# Altium schematic symbol library Schlib1.SchLib: 19 symbols
Pins are listed as number, name and electrical type; pins without a type are passive.

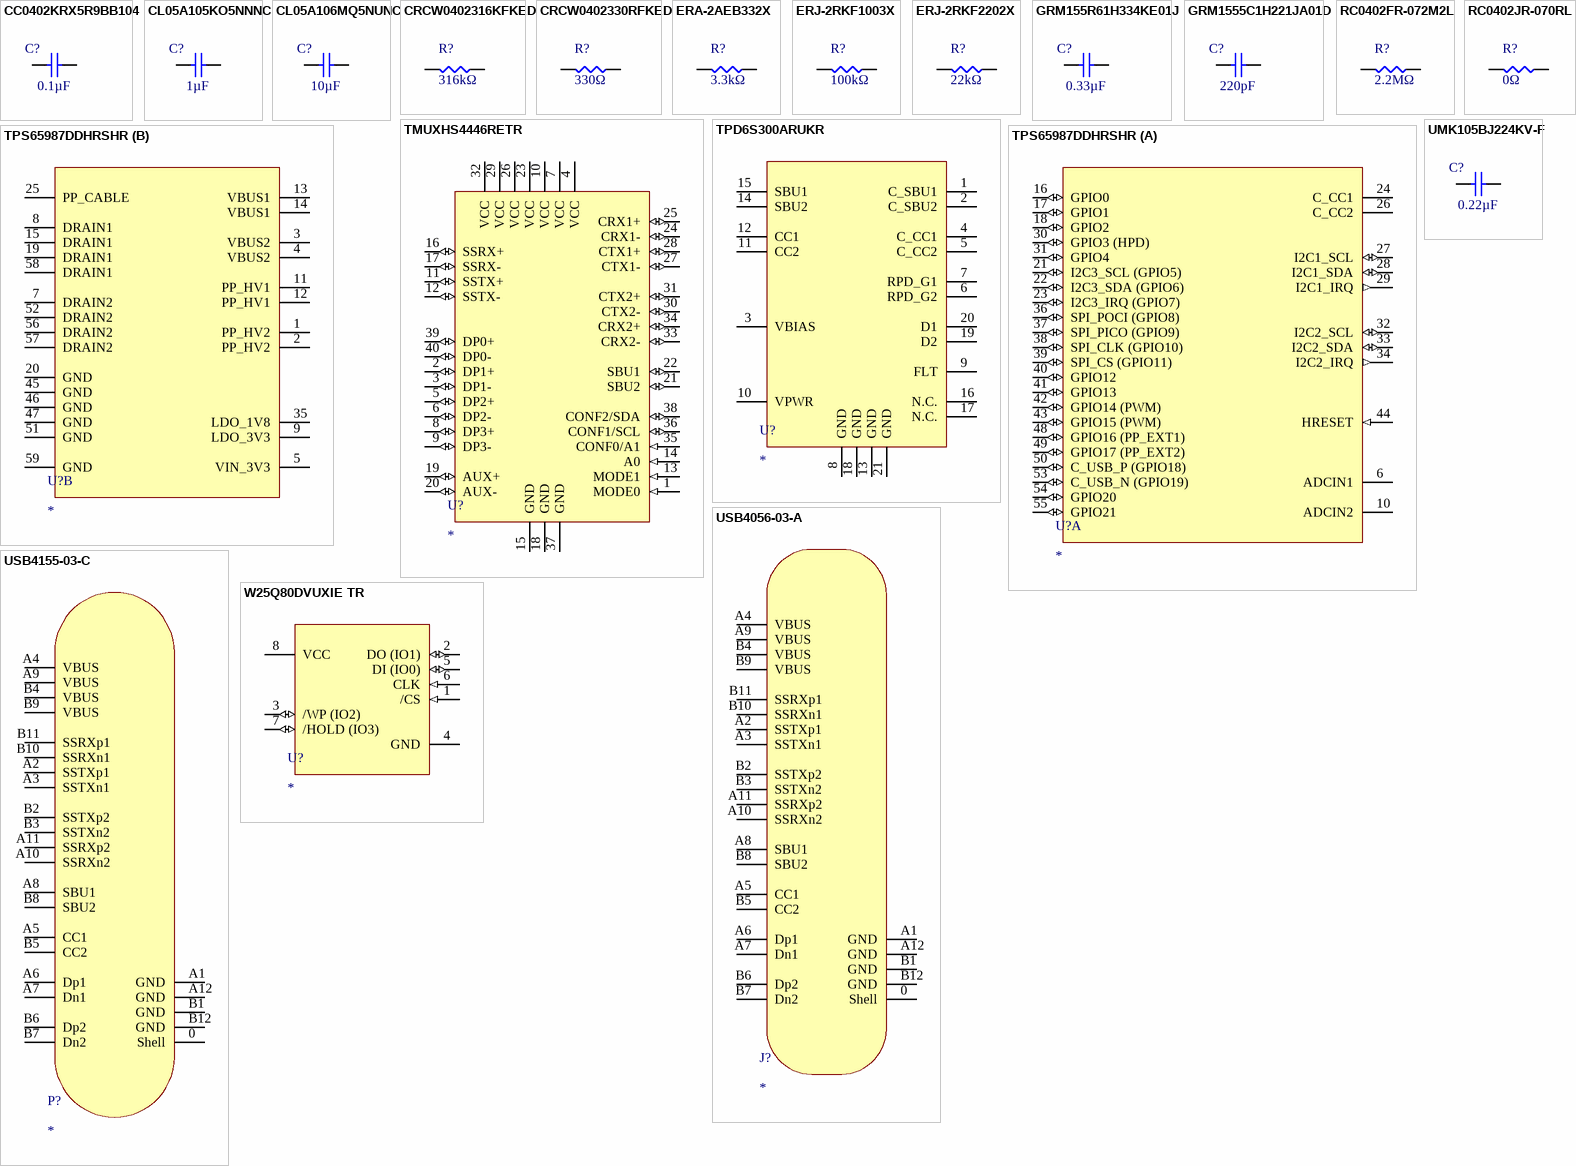
[diagram p0: symbols CC0402KRX5R9BB104 to W25Q80DVUXIE TR]

## CC0402KRX5R9BB104
designator C?  value 0.1µF
0.1 µF ±10% 50V Ceramic Capacitor X5R 0402 (1005 Metric); Temperature Coefficient: X5R; Package: 0402 (1005 Metric); Voltage: 50V
footprint CAP0402 (Chip Capacitor, Body 1x0.5mm, Height 0.35mm, IPC Medium Density)
pins: 1, 2

## CL05A105KO5NNNC
designator C?  value 1µF
1 µF ±10% 16V Ceramic Capacitor X5R 0402 (1005 Metric); Temperature Coefficient: X5R; Package: 0402 (1005 Metric); Voltage: 16V
footprint CAP0402 (Chip Capacitor, Body 1x0.5mm, Height 0.35mm, IPC Medium Density)
pins: 1, 2

## CL05A106MQ5NUNC
designator C?  value 10µF
10 µF ±20% 6.3V Ceramic Capacitor X5R 0402 (1005 Metric); Temperature Coefficient: C0G, NP0; Package: 0402 (1005 Metric); Voltage: 6.3V
footprint CAP0402 (Chip Capacitor, Body 1x0.5mm, Height 0.35mm, IPC Medium Density)
pins: 1, 2

## CRCW0402316KFKED
designator R?  value 316kΩ
316 kOhms ±1% 0.1W, 1/10W Chip Resistor 0402 (1005 Metric) Automotive AEC-Q200 Thick Film; Manufacturer 1: Vishay Dale; Manufacturer Part Number 1: CRCW0402316KFKED; Supplier Part Number 1: 541-316KLCT-ND; Supplier 1: Digi-Key; Power Rating: 1/10W
footprint RES0402 (Chip Resistor, Body 1x0.5mm, IPC Medium Density)
pins: 1, 2

## CRCW0402330RFKED
designator R?  value 330Ω
330 Ohms ±1% 0.1W, 1/10W Chip Resistor 0402 (1005 Metric) Automotive AEC-Q200 Thick Film; Manufacturer 1: Vishay Dale; Manufacturer Part Number 1: CRCW0402330RFKED; Supplier Part Number 1: 541-330LCT-ND; Supplier 1: Digi-Key; Power Rating: 1/10W
footprint RES0402 (Chip Resistor, Body 1x0.5mm, IPC Medium Density)
pins: 1, 2

## ERA-2AEB332X
designator R?  value 3.3kΩ
3.3 kOhms ±0.1% 0.063W, 1/16W Chip Resistor 0402 (1005 Metric) Automotive AEC-Q200 Thin Film; Manufacturer 1: Panasonic Electronic Components; Manufacturer Part Number 1: ERA-2AEB332X; Supplier Part Number 1: P3.3KDCCT-ND; Supplier 1: Digi-Key; Power Rating: 1/16W
footprint RES0402 (Chip Resistor, Body 1x0.5mm, IPC Medium Density)
pins: 1, 2

## ERJ-2RKF1003X
designator R?  value 100kΩ
100 kOhms ±1% 0.1W, 1/10W Chip Resistor 0402 (1005 Metric) Automotive AEC-Q200 Thick Film; Manufacturer 1: Panasonic Electronic Components; Manufacturer Part Number 1: ERJ-2RKF1003X; Supplier Part Number 1: P100KLCT-ND; Supplier 1: Digi-Key; Power Rating: 1/10W
footprint RES0402 (Chip Resistor, Body 1x0.5mm, IPC Medium Density)
pins: 1, 2

## ERJ-2RKF2202X
designator R?  value 22kΩ
22 kOhms ±1% 0.1W, 1/10W Chip Resistor 0402 (1005 Metric) Automotive AEC-Q200 Thick Film; Manufacturer 1: Panasonic Electronic Components; Manufacturer Part Number 1: ERJ-2RKF2202X; Supplier Part Number 1: P22.0KLCT-ND; Supplier 1: Digi-Key; Power Rating: 1/10W
footprint RES0402 (Chip Resistor, Body 1x0.5mm, IPC Medium Density)
pins: 1, 2

## GRM155R61H334KE01J
designator C?  value 0.33µF
0.33 µF ±10% 50V Ceramic Capacitor X5R 0402 (1005 Metric); Temperature Coefficient: X5R; Package: 0402 (1005 Metric); Voltage: 50V
footprint CAP0402 (Chip Capacitor, Body 1x0.5mm, Height 0.35mm, IPC Medium Density)
pins: 1, 2

## GRM1555C1H221JA01D
designator C?  value 220pF
220 pF ±5% 50V Ceramic Capacitor C0G, NP0 0402 (1005 Metric); Temperature Coefficient: C0G, NP0; Package: 0402 (1005 Metric); Voltage: 50V
footprint CAP0402 (Chip Capacitor, Body 1x0.5mm, Height 0.35mm, IPC Medium Density)
pins: 1, 2

## RC0402FR-072M2L
designator R?  value 2.2MΩ
2.2 MOhms ±1% 0.063W, 1/16W Chip Resistor 0402 (1005 Metric) Moisture Resistant Thick Film; Manufacturer 1: YAGEO; Manufacturer Part Number 1: RC0402FR-072M2L; Supplier Part Number 1: 13-RC0402FR-072M2LCT-ND; Supplier 1: Digi-Key; Power Rating: 1/16W
footprint RES0402 (Chip Resistor, Body 1x0.5mm, IPC Medium Density)
pins: 1, 2

## RC0402JR-070RL
designator R?  value 0Ω
0 Ohms Jumper Chip Resistor 0402 (1005 Metric) Moisture Resistant Thick Film; Manufacturer 1: YAGEO; Manufacturer Part Number 1: RC0402JR-070RL; Power Rating: 1/16W; Supplier Part Number 1: 311-0.0JRCT-ND; Supplier 1: Digi-Key
footprint RES0402 (Chip Resistor, Body 1x0.5mm, IPC Medium Density)
pins: 1, 2

## TMUXHS4446RETR
designator U?
4 Circuit IC Switch 4:4 7Ohm (Typ) 40-WQFN (6x3); Manufacturer: Texas Instruments; Manufacturer Product Number: TMUXHS4446RETR; Standards: USB 3.2 Gen 2, DP 2.1; Supplier: DigiKey; Supplier Part Number: 296-TMUXHS4446RETRCT-ND; Datasheet: https://www.ti.com/lit/ds/symlink/tmuxhs4446.pdf?ts=1710887339890&ref_url=https%253A%252F%252Fwww.ti.com%252Fproduct%252FTMUXHS4446%253Fjktype%253Dhomepageproduct; Operating Temperature: -40°C ~ 85°C
pins: 1 MODE0 (in), 2 DP1+ (io), 3 DP1- (io), 4 VCC, 5 DP2+ (io), 6 DP2- (io), 7 VCC, 8 DP3+ (io), 9 DP3- (io), 10 VCC, 11 SSTX+ (io), 12 SSTX- (io), 13 MODE1 (in), 14 A0 (in), 15 GND, 16 SSRX+ (io), 17 SSRX- (io), 18 GND, 19 AUX+ (io), 20 AUX- (io), 21 SBU2 (io), 22 SBU1 (io), 23 VCC, 24 CRX1- (io), 25 CRX1+ (io), 26 VCC, 27 CTX1- (io), 28 CTX1+ (io), 29 VCC, 30 CTX2- (io), 31 CTX2+ (io), 32 VCC, 33 CRX2- (io), 34 CRX2+ (io), 35 CONF0/A1 (in), 36 CONF1/SCL (io), 37 GND, 38 CONF2/SDA (io), 39 DP0+ (io), 40 DP0- (io)

## TPD6S300ARUKR
designator U?
Overvoltage/Surge Protection IC 8V Internal Switch 20-WQFN (3x3); Manufacturer: Texas Instruments; Manufacturer Product Number: TPD6S300ARUKR; Supplier: DigiKey; Supplier Part Number: 296-51856-1-ND; Datasheet: https://www.ti.com/lit/ds/symlink/tpd6s300a.pdf?ts=1769365287609; Operating Temperature: -40°C ~ 85°C
pins: 1 C_SBU1, 2 C_SBU2, 3 VBIAS, 4 C_CC1, 5 C_CC2, 6 RPD_G2, 7 RPD_G1, 8 GND, 9 FLT, 10 VPWR, 11 CC2, 12 CC1, 13 GND, 14 SBU2, 15 SBU1, 16 N.C., 17 N.C., 18 GND, 19 D2, 20 D1, 21 GND

## TPS65987DDHRSHR
designator U?
USB, Type-C Controller PMIC 56-VQFN (7x7); Manufacturer: Texas Instruments; Manufacturer Product Number: TPS65987DDHRSHR; Standards: USB4 PD 3.0; Supplier: DigiKey; Supplier Part Number: 296-52067-1-ND; Datasheet: https://www.ti.com/lit/ds/symlink/tps65987d.pdf?HQS=dis-dk-null-digikeymode-dsf-pf-null-wwe&ts=1769374030059; Operating Temperature: -10°C ~ 75°C
footprint 56-VQFN (7x7)
part A pins: 6 ADCIN1, 10 ADCIN2, 16 GPIO0 (io), 17 GPIO1 (io), 18 GPIO2 (io), 21 I2C3_SCL (GPIO5) (io), 22 I2C3_SDA (GPIO6) (io), 23 I2C3_IRQ (GPIO7) (io), 24 C_CC1, 26 C_CC2, 27 I2C1_SCL (io), 28 I2C1_SDA (io), 29 I2C1_IRQ (out), 30 GPIO3 (HPD) (io), 31 GPIO4 (io), 32 I2C2_SCL (io), 33 I2C2_SDA (io), 34 I2C2_IRQ (out), 36 SPI_POCI (GPIO8) (io), 37 SPI_PICO (GPIO9) (io), 38 SPI_CLK (GPIO10) (io), 39 SPI_CS (GPIO11) (io), 40 GPIO12 (io), 41 GPIO13 (io), 42 GPIO14 (PWM) (io), 43 GPIO15 (PWM) (io), 44 HRESET (in), 48 GPIO16 (PP_EXT1) (io), 49 GPIO17 (PP_EXT2) (io), 50 C_USB_P (GPIO18) (io), 53 C_USB_N (GPIO19) (io), 54 GPIO20 (io), 55 GPIO21 (io)
part B pins: 1 PP_HV2, 2 PP_HV2, 3 VBUS2, 4 VBUS2, 5 VIN_3V3, 7 DRAIN2, 8 DRAIN1, 9 LDO_3V3, 11 PP_HV1, 12 PP_HV1, 13 VBUS1, 14 VBUS1, 15 DRAIN1, 19 DRAIN1, 20 GND, 25 PP_CABLE, 35 LDO_1V8, 45 GND, 46 GND, 47 GND, 51 GND, 52 DRAIN2, 56 DRAIN2, 57 DRAIN2, 58 DRAIN1, 59 GND

## UMK105BJ224KV-F
designator C?  value 0.22µF
0.22 µF ±10% 50V Ceramic Capacitor X5R 0402 (1005 Metric); Temperature Coefficient: X5R; Package: 0402 (1005 Metric); Voltage: 50V
footprint CAP0402 (Chip Capacitor, Body 1x0.5mm, Height 0.35mm, IPC Medium Density)
pins: 1, 2

## USB4056-03-A
designator J?
USB-C (USB TYPE-C) USB 3.2 Gen 2 (USB 3.1 Gen 2, Superspeed + (USB 3.1)) Receptacle Connector 24 Position Surface Mount, Right Angle; Through Hole; Manufacturer: GCT; Manufacturer Product Number: USB4056-03-A; Voltage: 48VDC; Supplier: DigiKey; Supplier Part Number: 2073-USB4056-03-ACT-ND; Datasheet: https://gct.co/connector/usb4056; Standards: USB 3.2 Gen 2; Operating Temperature: -25°C ~ 85°C
footprint USB4056-03-A (USB C 3.2 REC, HORZ, HYBRID PCB)
pins: 0 Shell "USB-C Connector Shell (GND)", A1 GND, A2 SSTXp1, A3 SSTXn1, A4 VBUS, A5 CC1, A6 Dp1, A7 Dn1, A8 SBU1, A9 VBUS, A10 SSRXn2, A11 SSRXp2, A12 GND, B1 GND, B2 SSTXp2, B3 SSTXn2, B4 VBUS, B5 CC2, B6 Dp2, B7 Dn2, B8 SBU2, B9 VBUS, B10 SSRXn1, B11 SSRXp1, B12 GND

## USB4155-03-C
designator P?
USB-C (USB TYPE-C) USB 3.2 Gen 2 (USB 3.1 Gen 2, Superspeed + (USB 3.1)) Plug Connector 24 Position Board Edge, Surface Mount; Through Hole, Right Angle; Manufacturer: GCT; Manufacturer Product Number: USB4056-03-A; Voltage: 48VDC; Supplier: DigiKey; Supplier Part Number: 2073-USB4056-03-ACT-ND; Datasheet: https://gct.co/connector/usb4056; Standards: USB 3.2 Gen 2; Operating Temperature: -25°C ~ 85°C
footprint USB4155-03-C
pins: 0 Shell "USB-C Connector Shell (GND)", A1 GND, A2 SSTXp1, A3 SSTXn1, A4 VBUS, A5 CC1, A6 Dp1, A7 Dn1, A8 SBU1, A9 VBUS, A10 SSRXn2, A11 SSRXp2, A12 GND, B1 GND, B2 SSTXp2, B3 SSTXn2, B4 VBUS, B5 CC2, B6 Dp2, B7 Dn2, B8 SBU2, B9 VBUS, B10 SSRXn1, B11 SSRXp1, B12 GND

## W25Q80DVUXIE TR
designator U?
FLASH - NOR Memory IC 8Mbit SPI - Quad I/O 104 MHz 8-USON (2x3); Manufacturer: Winbond Electronics; Manufacturer Product Number: W25Q80DVUXIE TR; Supplier: DigiKey; Supplier Part Number: 256-W25Q80DVUXIETRCT-ND; Datasheet: https://www.winbond.com/resource-files/w25q80dv%20dl_revh_10022015.pdf; Standards: SPI - Quad I/O; Operating Temperature: -40°C ~ 85°C
pins: 1 /CS (in), 2 DO (IO1) (io), 3 /WP (IO2) (io), 4 GND, 5 DI (IO0) (io), 6 CLK (in), 7 /HOLD (IO3) (io), 8 VCC